# EAGLE library part MMA8451QR1 (library ewheel32)
3-Axis, 14-bit/8-bit Digital Accelerometer
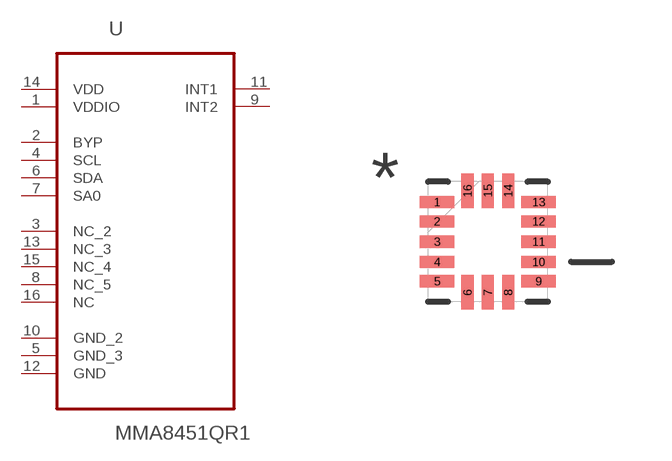
[diagram p1: symbol with the pads of QFN50P300X300X100-16N; footprint QFN50P300X300X100-16N]

Designator prefix U

## MMA8451QR1 (MPN: MMA8451QR1; OC_FARNELL: 1908021; OC_NEWARK: 84R7350; PACKAGE: QFN-16; SUPPLIER: Freescale)  [QFN50P300X300X100-16N]
1  VDDIO  pwr
2  BYP  in
3  NC_2  nc
4  SCL  in
5  GND_3  pas
6  SDA  in
7  SA0  in
8  NC_5  nc
9  INT2  out
10  GND_2  pas
11  INT1  out
12  GND  pas
13  NC_3  nc
14  VDD  pwr
15  NC_4  nc
16  NC  nc

## Footprint QFN50P300X300X100-16N (pad centres in mm)
smd 0.864 x 0.305: 1 -1.27,0.991; 2 -1.27,0.508; 3 -1.27,0; 4 -1.27,-0.508; 5 -1.27,-0.991; 9 1.27,-0.991; 10 1.27,-0.508; 11 1.27,0; 12 1.27,0.508; 13 1.27,0.991
smd 0.305 x 0.864: 6 -0.508,-1.27; 7 0,-1.27; 8 0.508,-1.27; 14 0.508,1.27; 15 0,1.27; 16 -0.508,1.27